# Altium footprint library SWITCH_JOYSTICK.PcbLib: 2 footprints
Each footprint in its own frame and in the unit in brackets; x right, y up, seen from the top. Pads: shape width x height; smd on the part's side, far side on the other; paste and mask are expansions set on the pad; w line width, h text height; cw(c..) or ccw(c..) is an arc to the next point about the centre after c.
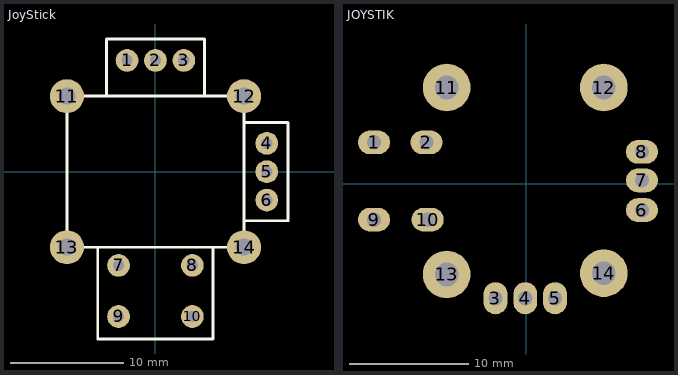
[diagram p0: the footprints below, top view; thin cyan lines are the x and y axes]

## JoyStick [mm] "Ä£Ä"
height 20
pads (14):
  round 2 hole 1: 1(-2.5,9.8) 2(0,9.8) 3(2.5,9.8) 4(9.8,2.5) 5(9.8,0) 6(9.8,-2.5) 7(-3.25,-8.25) 8(3.25,-8.25) 9(-3.25,-12.75) 10(3.25,-12.75)
  round 3 hole 1.5: 11(-7.8,6.65) 12(7.8,6.65) 13(-7.8,-6.65) 14(7.8,-6.65)
Top Overlay:
  lines w0.254: -5.08,-6.65 -5.08,-14.732 5.08,-14.732 5.08,-6.65 ; -4.318,6.65 -4.318,11.684 4.318,11.684 4.318,6.65 ; 7.8,-4.318 11.684,-4.318 11.684,4.318 7.8,4.318 ; -7.8,-6.65 -7.8,6.65 7.8,6.65 7.8,-6.65 -7.8,-6.65

## JOYSTIK [mm]
pads (14):
  oval 2.7x2 hole 1.2: 1(-12.8,3.5) 2(-8.4,3.5) 6(9.7,-2.2) 7(9.7,0.3) 8(9.7,2.7) 9(-12.8,-3) 10(-8.3,-3)
  oval 2x2.7 hole 1.2: 3(-2.6,-9.6) 4(-0.1,-9.6) 5(2.4,-9.6)
  round 4 hole 2: 11(-6.7,8.1) 12(6.5,8.1) 13(-6.7,-7.6) 14(6.5,-7.5)
3D body "User Library-ALPS JOYSTICK.STEP": height 30.09, standoff -3.69, extent -16.106,-12.8 12.906,13.5